# EAGLE library part W65C02S (library 6502-shield)
w65c02s 8-bit microprocessor
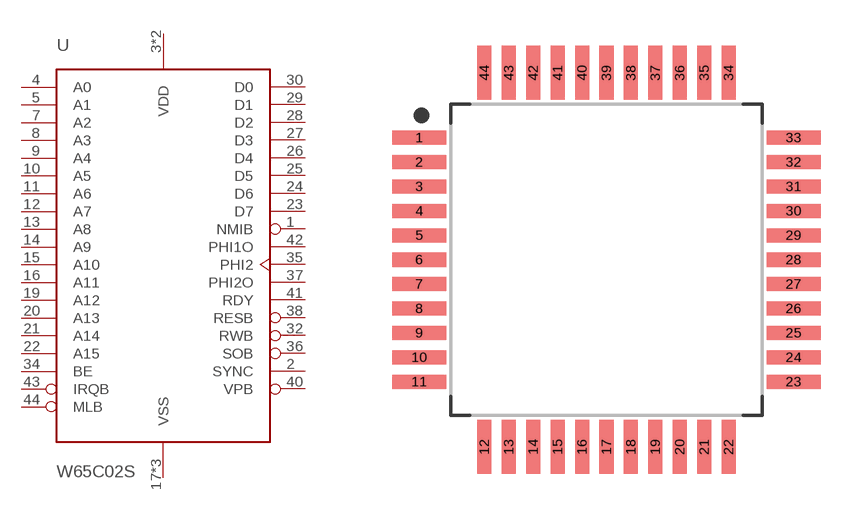
[diagram p1: symbol with the pads of QFP80P1320X1320X270-44N; footprint QFP80P1320X1320X270-44N]

Designator prefix U

## W65C02S  [QFP80P1320X1320X270-44N]
1  NMIB
2  SYNC
3  VDD
4  A0
5  A1
7  A2
8  A3
9  A4
10  A5
11  A6
12  A7
13  A8
14  A9
15  A10
16  A11
17  VSS
18  VSS
19  A12
20  A13
21  A14
22  A15
23  D7
24  D6
25  D5
26  D4
27  D3
28  D2
29  D1
30  D0
31  VDD
32  RWB
34  BE
35  PHI2
36  SOB
37  PHI2O
38  RESB
39  VSS
40  VPB
41  RDY
42  PHI1O
43  IRQB
44  MLB

## Footprint QFP80P1320X1320X270-44N (pad centres in mm)
44-QFP, 0.80 mm pitch, 13.20 mm span, 10.00 X 10.00 X 2.70 mm body 44-pin QFP package with 0.80 mm pitch, 13.20 mm lead span1 X 13.20 mm lead span2 with body size 10.00 X 10.00 X 2.70 mm
smd 1.768 x 0.459: 1 -6.13,4; 2 -6.13,3.2; 3 -6.13,2.4; 4 -6.13,1.6; 5 -6.13,0.8; 6 -6.13,0; 7 -6.13,-0.8; 8 -6.13,-1.6; 9 -6.13,-2.4; 10 -6.13,-3.2; 11 -6.13,-4; 23 6.13,-4; 24 6.13,-3.2; 25 6.13,-2.4; 26 6.13,-1.6; 27 6.13,-0.8; 28 6.13,0; 29 6.13,0.8; 30 6.13,1.6; 31 6.13,2.4; 32 6.13,3.2; 33 6.13,4
smd 0.459 x 1.768: 12 -4,-6.13; 13 -3.2,-6.13; 14 -2.4,-6.13; 15 -1.6,-6.13; 16 -0.8,-6.13; 17 0,-6.13; 18 0.8,-6.13; 19 1.6,-6.13; 20 2.4,-6.13; 21 3.2,-6.13; 22 4,-6.13; 34 4,6.13; 35 3.2,6.13; 36 2.4,6.13; 37 1.6,6.13; 38 0.8,6.13; 39 0,6.13; 40 -0.8,6.13; 41 -1.6,6.13; 42 -2.4,6.13; 43 -3.2,6.13; 44 -4,6.13